# EAGLE library part 72309-5044BLF (library con-amphenol)
Dual USB 2.0 Connector
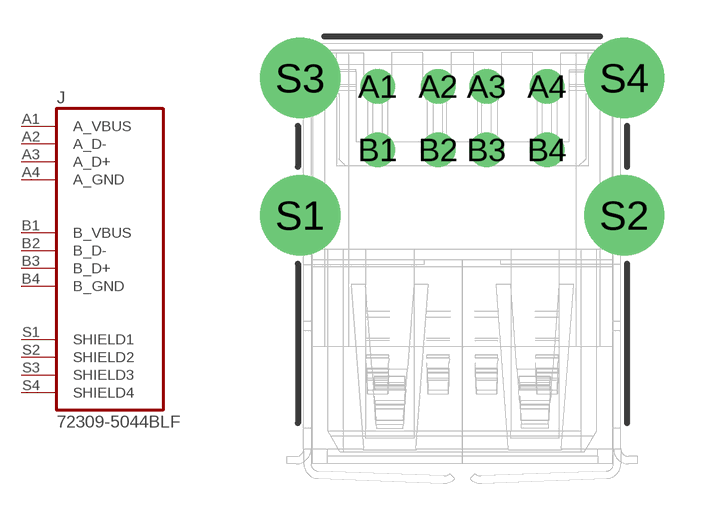
[diagram p12: symbol with the pads of 72309-5044BLF; footprint 72309-5044BLF]

Designator prefix J

## 72309-5044BLF  [72309-5044BLF]
A1  A_VBUS  pas
A2  A_D-  pas
A3  A_D+  pas
A4  A_GND  pas
B1  B_VBUS  pas
B2  B_D-  pas
B3  B_D+  pas
B4  B_GND  pas
S1  SHIELD1  pas
S2  SHIELD2  pas
S3  SHIELD3  pas
S4  SHIELD4  pas

## Footprint 72309-5044BLF (pad centres in mm)
DUAL USB 2.0 CONNECTOR
drill 0.92: A1 -3.5,5.33; A2 -1,5.33; A3 1,5.33; A4 3.5,5.33; B1 -3.5,2.71; B2 -1,2.71; B3 1,2.71; B4 3.5,2.71
drill 2.3: S1 -6.7,0; S2 6.7,0; S3 -6.7,5.68; S4 6.7,5.68